# EAGLE library part I2C_TRANSLATOR (library I2Ctranslator_PCA9306DQER)
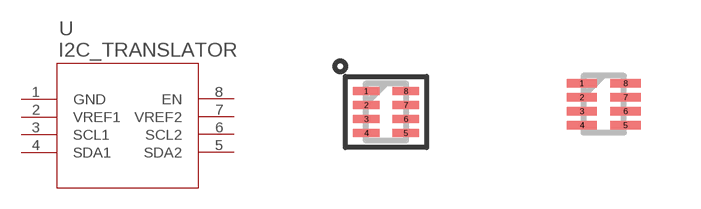
[diagram p0: symbol with the pads of DQE8; footprints DQE8, DQE8-M]

Designator prefix U

## I2C_TRANSLATOR (DESCRIPTION: IC TRNSLTR BIDIRECTIONAL 8X2SON; LINK: https://www.digikey.com/product-detail/en/texas-instruments/PCA9306DQER/296-27957-1-ND/2446266; MANUFACTURER: Texas Instruments; MANUFACTURER_PART_NUM: PCA9306DQER)  [DQE8]
1  GND  pwr
2  VREF1  pas
3  SCL1  pas
4  SDA1  pas
5  SDA2  pas
6  SCL2  pas
7  VREF2  pas
8  EN  pas

## I2C_TRANSLATORDQE8-M (MANUFACTURER_PART_NUMBER: PCA9306DQER; VENDOR: Texas Instruments)  [DQE8-M]
Pads as for DQE8

## I2C_TRANSLATORDQE8-L (MANUFACTURER_PART_NUMBER: PCA9306DQER; VENDOR: Texas Instruments)  [DQE8-L]
Pads as for DQE8

## Footprint DQE8 (pad centres in mm)
smd 0.66 x 0.203: 1 -0.495,0.525; 2 -0.495,0.175; 3 -0.495,-0.175; 4 -0.495,-0.525; 5 0.495,-0.525; 6 0.495,-0.175; 7 0.495,0.175; 8 0.495,0.525

## Footprint DQE8-M (pad centres in mm)
smd 0.762 x 0.203: 1 -0.546,0.525; 2 -0.546,0.175; 3 -0.546,-0.175; 4 -0.546,-0.525; 5 0.546,-0.525; 6 0.546,-0.175; 7 0.546,0.175; 8 0.546,0.525

## Footprint DQE8-L (pad centres in mm)
smd 0.559 x 0.203: 1 -0.445,0.525; 2 -0.445,0.175; 3 -0.445,-0.175; 4 -0.445,-0.525; 5 0.445,-0.525; 6 0.445,-0.175; 7 0.445,0.175; 8 0.445,0.525